# EAGLE library part IS62C1024AL-35QLI (library ISSI_By_element14_Batch_1)
STATIC RAM
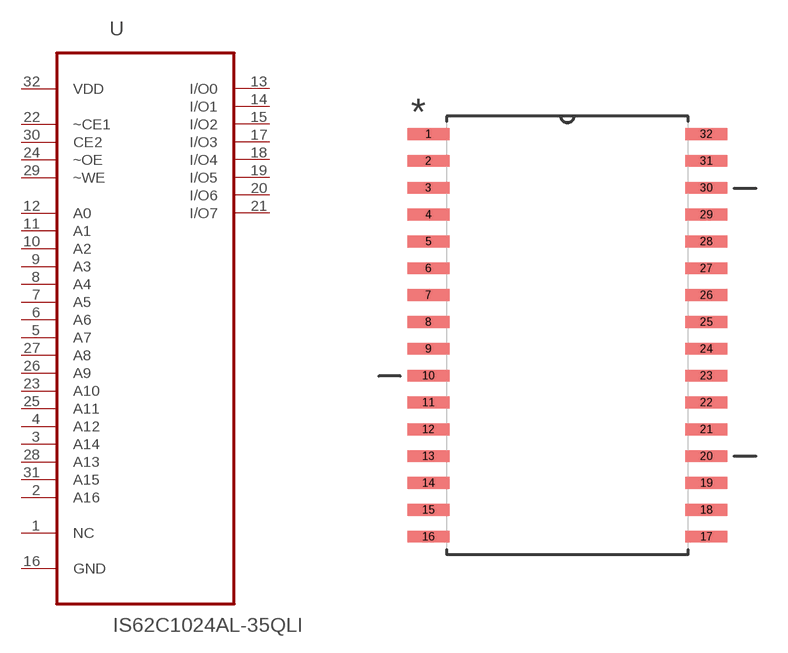
[diagram p2: symbol with the pads of SOIC127P1412X305-32N; footprint SOIC127P1412X305-32N]

Designator prefix U

## IS62C1024AL-35QLI (MPN: IS62C1024AL-35QLI; OC_FARNELL: 1869973; OC_NEWARK: 43M5399; PACKAGE: SOIC-32; SUPPLIER: INTEGRATED SILICON SOLUTION (ISSI))  [SOIC127P1412X305-32N]
1  NC  nc
2  A16  in
3  A14  in
4  A12  in
5  A7  in
6  A6  in
7  A5  in
8  A4  in
9  A3  in
10  A2  in
11  A1  in
12  A0  in
13  I/O0
14  I/O1
15  I/O2
16  GND  pas
17  I/O3
18  I/O4
19  I/O5
20  I/O6
21  I/O7
22  ~CE1  in
23  A10  in
24  ~OE  in
25  A11  in
26  A9  in
27  A8  in
28  A13  in
29  ~WE  in
30  CE2  in
31  A15  in
32  VDD  pwr

## Footprint SOIC127P1412X305-32N (pad centres in mm)
smd 1.981 x 0.559: 1 -6.579,9.525; 2 -6.579,8.255; 3 -6.579,6.985; 4 -6.579,5.715; 5 -6.579,4.445; 6 -6.579,3.175; 7 -6.579,1.905; 8 -6.579,0.635; 9 -6.579,-0.635; 10 -6.579,-1.905; 11 -6.579,-3.175; 12 -6.579,-4.445; 13 -6.579,-5.715; 14 -6.579,-6.985; 15 -6.579,-8.255; 16 -6.579,-9.525; 17 6.579,-9.525; 18 6.579,-8.255; 19 6.579,-6.985; 20 6.579,-5.715; 21 6.579,-4.445; 22 6.579,-3.175; 23 6.579,-1.905; 24 6.579,-0.635; 25 6.579,0.635; 26 6.579,1.905; 27 6.579,3.175; 28 6.579,4.445; 29 6.579,5.715; 30 6.579,6.985; 31 6.579,8.255; 32 6.579,9.525